# EAGLE library part SN74LS07DR (library SN74LS07DR)
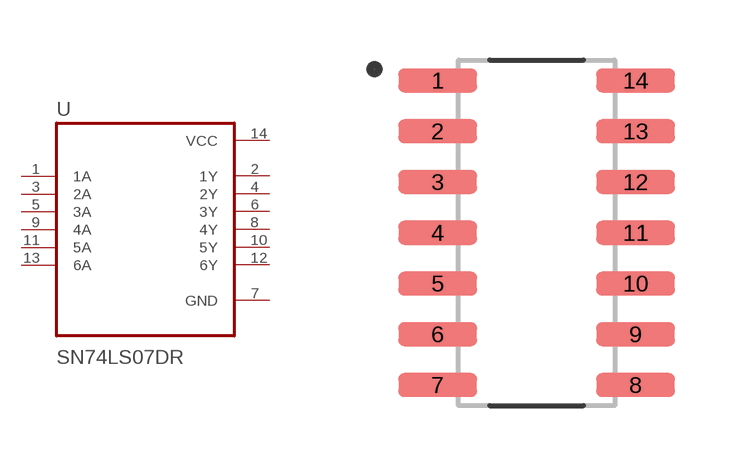
[diagram p0: symbol with the pads of SOIC127P600X175-14N; footprint SOIC127P600X175-14N]

Designator prefix U

## SN74LS07DR (Description: 6-ch, 4.75-V to 5.25-V bipolar buffers with open-collector outputs; Digi-Key_Part_Number: 296-14877-2-ND; MF: Texas Instruments; MP: SN74LS07DR; Package: SOIC-14 Texas Instruments; Purchase-URL: https://pricing.snapeda.com/search/part/SN74LS07DR/?ref=eda)  [SOIC127P600X175-14N]
1  1A  in
2  1Y  out
3  2A  in
4  2Y  out
5  3A  in
6  3Y  out
7  GND  pwr
8  4Y  out
9  4A  in
10  5Y  out
11  5A  in
12  6Y  out
13  6A  in
14  VCC  pwr

## Footprint SOIC127P600X175-14N (pad centres in mm)
smd 1.97 x 0.6: 1 -2.475,3.81; 2 -2.475,2.54; 3 -2.475,1.27; 4 -2.475,0; 5 -2.475,-1.27; 6 -2.475,-2.54; 7 -2.475,-3.81; 8 2.475,-3.81; 9 2.475,-2.54; 10 2.475,-1.27; 11 2.475,0; 12 2.475,1.27; 13 2.475,2.54; 14 2.475,3.81